# Altium schematic symbol library 22-27-2031.SchLib: 1 symbol
Pins are listed as number, name and electrical type; pins without a type are passive.

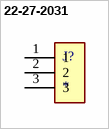
[diagram p0: symbol 22-27-2031]

## 22-27-2031
designator J?
KKÂ® 254 Wire-to-Board Header, Vertical, with Friction Lock, 3 Circuits, Tin (Sn) Plating; MF: Molex; Package: None; Price: None; Value: *; MP: 22-27-2031; Availability: Unavailable
footprint MOLEX_22-27-2031
pins: 1, 2, 3